# Altium footprint library Tama_PcbLib.PcbLib: 35 footprints (part 2 of 3)
Each footprint in its own frame and in the unit in brackets; x right, y up, seen from the top. Pads: shape width x height; smd on the part's side, far side on the other; paste and mask are expansions set on the pad; w line width, h text height; cw(c..) or ccw(c..) is an arc to the next point about the centre after c.
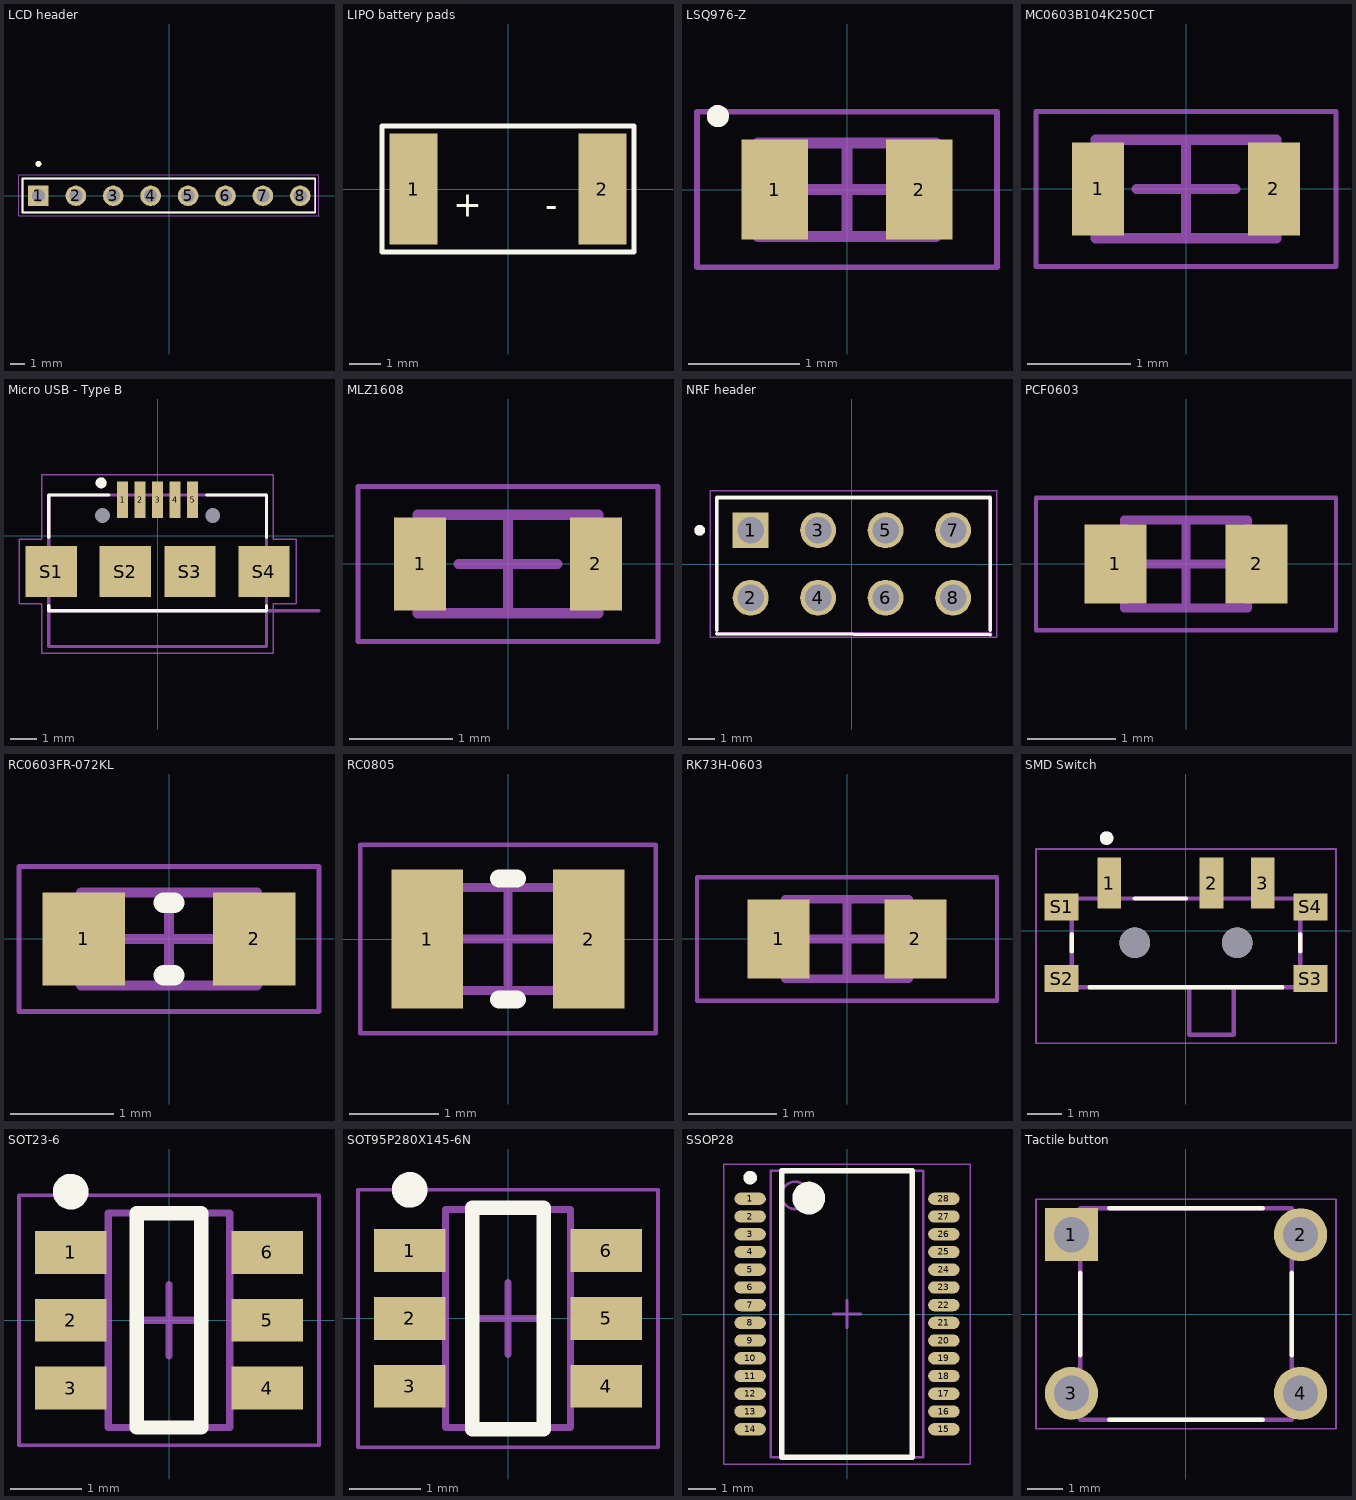
[diagram p1: the footprints below, top view; thin cyan lines are the x and y axes]

## LCD header [mm] "LCD header"
pads (8):
  rect 1.398x1.398 hole 0.89: 1(-8.89,0)
  round 1.398 hole 0.89: 2(-6.35,0) 3(-3.81,0) 4(-1.27,0) 5(1.27,0) 6(3.81,0) 7(6.35,0) 8(8.89,0)
Top Overlay:
  circle w0.2: c-8.89,2.17 r0.1
  lines w0.127: 9.878,1.17 -9.96,1.17 -9.96,-1.143 7.366,-1.143 9.906,-1.143 9.906,1.143
Mechanical 13:
  circle w0.2: c-8.89,2.17 r0.1
  lines w0.127: 9.878,1.17 -9.96,1.17 -9.96,-1.143 9.879,-1.143 9.879,1.17
Mechanical 15:
  lines w0.05: 10.137,-1.324 10.137,1.42 -10.21,1.42 -10.21,-1.347 10.16,-1.347

## LIPO battery pads [mm]
pads (2):
  rect 1.524x3.524 smd: 1(-3,0) 2(3,0)
Top Overlay:
  lines w0.154: -4,-2 4,-2 4,2 -4,2 -4,-2
  text "+" at -1.746,-0.879 h0.8
  text "-" at 1.185,-0.902 h0.8

## LSQ976-Z [mm] "SMD - Led"
height 0.84
pads (2):
  rect 0.6x0.9 smd: 1(-0.65,0) 2(0.65,0)
Top Overlay:
  circle w0.1: c-1.162,0.662 r0.05
Mechanical 13:
  lines w0.1: -0.8,-0.42 -0.8,0.42 0.8,0.42 0.8,-0.42 -0.8,-0.42
Mechanical 15:
  lines w0.05: -1.35,-0.7 -1.35,0.7 1.35,0.7 1.35,-0.7 -1.35,-0.7
  lines w0.1: -0.42,0 0.42,0 ; 0,-0.42 0,0.42
3D body "LSQ976-Z.step": height 0.84, standoff 0, extent -0.8,-0.42 0.8,0.42

## MC0603B104K250CT [mm] "0603 Capacitor"
height 0.6
pads (2):
  rect 0.5x0.9 smd: 1(-0.85,0) 2(0.85,0)
Mechanical 13:
  lines w0.1: -0.875,-0.475 0.875,-0.475 0.875,0.475 -0.875,0.475 -0.875,-0.475
Mechanical 15:
  lines w0.05: -1.45,-0.75 1.45,-0.75 1.45,0.75 -1.45,0.75 -1.45,-0.75
  lines w0.1: -0.475,0 0.475,0 ; 0,-0.475 0,0.475
3D body "MC0603B104K250CT.step": height 0.6, standoff 0, extent -0.875,-0.475 0.875,0.475

## Micro USB - Type B [mm] "Micro USB - Type B"
pads (11):
  rect 0.4x1.35 smd: 1(-1.3,1.338) 2(-0.65,1.338) 3(0,1.338) 4(0.65,1.338) 5(1.3,1.338)
  rect 1.9x1.9 smd: S1(-3.95,-1.338) S2(-1.2,-1.338) S3(1.2,-1.338) S4(3.95,-1.338)
  round 0.25 hole 0.55 unplated: ""(-2.05,0.75) ""(2.05,0.75)
Top Overlay:
  circle w0.2: c-2.1,1.963 r0.1
  lines w0.127: -4.05,-2.608 -4.05,-2.788 4.05,-2.788 4.05,-2.608 ; -4.05,-0.068 -4.05,1.512 -1.82,1.512 ; 1.82,1.512 4.05,1.512 4.05,-0.068
Mechanical 13:
  circle w0.2: c-2.1,1.963 r0.1
  lines w0.127: 6,-2.788 -4.05,-2.788 ; -4.05,-2.788 -4.05,-4.118 4.05,-4.118 4.05,1.512 -4.05,1.512 -4.05,-2.788
  text "PCB EDGE" at 5.325,-2.663 h0.61
Mechanical 15:
  lines w0.05: -5.15,-2.538 -5.15,-0.138 -4.3,-0.138 -4.3,2.262 4.3,2.262 4.3,-0.138 5.15,-0.138 5.15,-2.538 4.3,-2.538 4.3,-4.367 -4.3,-4.367 -4.3,-2.538 -5.15,-2.538
3D body "CUI_DEVICES_UJ2-MIBH-G-SMT-TR.step": height 2.66, standoff -0.59, extent -4.034,-4.159 4.066,1.484

## MLZ1608 [mm] "1608 - Inductor"
height 0.95
pads (2):
  rect 0.5x0.9 smd: 1(-0.85,0) 2(0.85,0)
Mechanical 13:
  lines w0.1: -0.875,-0.475 0.875,-0.475 0.875,0.475 -0.875,0.475 -0.875,-0.475
Mechanical 15:
  lines w0.05: -1.45,-0.75 1.45,-0.75 1.45,0.75 -1.45,0.75 -1.45,-0.75
  lines w0.1: -0.475,0 0.475,0 ; 0,-0.475 0,0.475
3D body "MLZ1608.step": height 0.95, standoff 0, extent -0.875,-0.475 0.875,0.475

## NRF header [mm] "8 pin NRF header"
pads (8):
  rect 1.35x1.35 hole 1: 1(-3.81,1.27)
  round 1.35 hole 1: 2(-3.81,-1.27) 3(-1.27,1.27) 4(-1.27,-1.27) 5(1.27,1.27) 6(1.27,-1.27) 7(3.81,1.27) 8(3.81,-1.27)
Top Overlay:
  circle w0.2: c-5.73,1.27 r0.1
  lines w0.127: -5.08,-2.627 5.206,-2.667 ; -5.08,-2.5 -5.08,2.5 5.156,2.5 ; 5.207,-2.5 5.207,2.5
Mechanical 13:
  circle w0.2: c-5.73,1.27 r0.1
  lines w0.127: -5.08,-2.5 -5.08,2.54 5.207,2.54 ; 5.207,-2.5 5.207,2.5 ; -5.08,-2.627 5.235,-2.629 -5.08,-2.627
Mechanical 15:
  lines w0.05: 5.457,-2.75 5.457,2.75 ; 5.461,-2.75 -5.33,-2.75 -5.33,2.75 5.461,2.75

## PCF0603 [mm] "PCF0603 SMD Resistor"
height 0.65
pads (2):
  rect 0.7x0.9 smd: 1(-0.8,0) 2(0.8,0)
Mechanical 13:
  lines w0.1: -0.7,-0.5 0.7,-0.5 0.7,0.5 -0.7,0.5 -0.7,-0.5
Mechanical 15:
  lines w0.05: -1.7,-0.75 1.7,-0.75 1.7,0.75 -1.7,0.75 -1.7,-0.75
  lines w0.1: -0.5,0 0.5,0 ; 0,-0.5 0,0.5
3D body "PCF0603.step": height 0.65, standoff 0, extent -0.7,-0.5 0.7,0.5

## RC0603FR-072KL [mm] "Chip Resistor, 2-Leads, Body 1,60x0,80mm, IPC Medium Density"
height 0.45
pads (2):
  rect 0.8x0.9 smd: 1(-0.825,0) 2(0.825,0)
Top Overlay:
  lines w0.2: -0.05,-0.35 0.05,-0.35 ; -0.05,0.35 0.05,0.35
Mechanical 13:
  lines w0.1: -0.85,-0.45 0.85,-0.45 0.85,0.45 -0.85,0.45 -0.85,-0.45
Mechanical 15:
  lines w0.05: -1.45,-0.7 1.45,-0.7 1.45,0.7 -1.45,0.7 -1.45,-0.7
  lines w0.1: -0.45,0 0.45,0 ; 0,-0.45 0,0.45
3D body "RESC1608X04N.step": height 0.45, standoff 0, extent -0.85,-0.45 0.85,0.45

## RC0805 [mm] "Chip Resistor, 2-Leads, Body 2,00x1,25mm, IPC Medium Density"
height 0.6
pads (2):
  rect 0.8x1.55 smd: 1(-0.9,0) 2(0.9,0)
Top Overlay:
  lines w0.2: -0.1,-0.675 0.1,-0.675 ; -0.1,0.675 0.1,0.675
Mechanical 13:
  lines w0.1: -1.05,-0.575 1.05,-0.575 1.05,0.575 -1.05,0.575 -1.05,-0.575
Mechanical 15:
  lines w0.05: -1.65,-1.05 1.65,-1.05 1.65,1.05 -1.65,1.05 -1.65,-1.05
  lines w0.1: -0.5,0 0.5,0 ; 0,-0.5 0,0.5
3D body "RC0805.step": height 0.6, standoff 0, extent -1.05,-0.575 1.05,0.575

## RK73H-0603 [mm] "RK73H 0603 SMD Resistor"
height 0.55
pads (2):
  rect 0.7x0.9 smd: 1(-0.775,0) 2(0.775,0)
Mechanical 13:
  lines w0.1: -0.7,-0.45 0.7,-0.45 0.7,0.45 -0.7,0.45 -0.7,-0.45
Mechanical 15:
  lines w0.05: -1.7,-0.7 1.7,-0.7 1.7,0.7 -1.7,0.7 -1.7,-0.7
  lines w0.1: -0.45,0 0.45,0 ; 0,-0.45 0,0.45
3D body "RK73H-0603.step": height 0.55, standoff 0, extent -0.7,-0.45 0.7,0.45

## SMD Switch [mm] "SMD slide switch"
pads (9):
  rect 0.7x1.5 smd: 1(-2.25,1.4) 2(0.75,1.4) 3(2.25,1.4)
  rect 1x0.8 smd: S1(-3.65,0.7) S2(-3.65,-1.4) S3(3.65,-1.4) S4(3.65,0.7)
  round 0.9 hole 0.9 unplated: ""(-1.5,-0.35) ""(1.5,-0.35)
Top Overlay:
  circle w0.2: c-2.329,2.721 r0.1
  lines w0.127: -3.35,-0.604 -3.35,-0.096 ; -2.83,-1.65 2.83,-1.65 ; -1.5,0.95 0,0.95 ; 3.35,-0.604 3.35,-0.096
Mechanical 13:
  circle w0.2: c-2.329,2.721 r0.1
  lines w0.127: 0.1,-1.65 1.4,-1.65 ; 0.1,-1.65 0.1,-3.05 1.4,-3.05 1.4,-1.65 ; 0.1,-1.65 -3.35,-1.65 -3.35,0.95 3.35,0.95 3.35,-1.65 1.4,-1.65
Mechanical 15:
  lines w0.05: -4.4,-3.3 4.4,-3.3 4.4,2.4 -4.4,2.4 -4.4,-3.3
3D body "step_temp.STEP": height 1.41, standoff -0.29, extent -3.874,-3.153 3.826,1.747

## SOT23-6 [mm] "SOT23-6"
height 1.45
pads (6):
  rect 1x0.6 smd: 1(-1.375,0.95) 2(-1.375,0) 3(-1.375,-0.95) 4(1.375,-0.95) 5(1.375,0) 6(1.375,0.95)
Top Overlay:
  circle w0.25: c-1.375,1.8 r0.125
  lines w0.2: -0.45,-1.5 0.45,-1.5 0.45,1.5 -0.45,1.5 -0.45,-1.5
Mechanical 13:
  lines w0.1: -0.85,-1.5 -0.85,1.5 0.85,1.5 0.85,-1.5 -0.85,-1.5
Mechanical 15:
  lines w0.05: -2.1,-1.75 -2.1,1.75 2.1,1.75 2.1,-1.75 -2.1,-1.75
  lines w0.1: -0.5,0 0.5,0 ; 0,-0.5 0,0.5
3D body "SOT23-6.step": height 1.45, standoff 0, extent -1.5,-1.5 1.5,1.5

## SOT95P280X145-6N [mm] "SOT23, 6-Leads - FS8205"
height 1.45
pads (6):
  rect 1x0.6 smd: 1(-1.375,0.95) 2(-1.375,0) 3(-1.375,-0.95) 4(1.375,-0.95) 5(1.375,0) 6(1.375,0.95)
Top Overlay:
  circle w0.25: c-1.375,1.8 r0.125
  lines w0.2: -0.5,-1.55 -0.5,1.55 0.5,1.55 0.5,-1.55 -0.5,-1.55
Mechanical 13:
  lines w0.1: -0.875,-1.525 0.875,-1.525 0.875,1.525 -0.875,1.525 -0.875,-1.525
Mechanical 15:
  lines w0.05: -2.1,-1.8 2.1,-1.8 2.1,1.8 -2.1,1.8 -2.1,-1.8
  lines w0.1: -0.5,0 0.5,0 ; 0,-0.5 0,0.5
3D body "SOT95P280X145-6N.step": height 1.45, standoff 0, extent -1.5,-1.525 1.5,1.525

## SSOP28 [mm] "SSOP28 - FTDI"
height 2
pads (28):
  oval 1.15x0.45 smd: 1(-3.55,4.225) 2(-3.55,3.575) 3(-3.55,2.925) 4(-3.55,2.275) 5(-3.55,1.625) 6(-3.55,0.975) 7(-3.55,0.325) 8(-3.55,-0.325) 9(-3.55,-0.975) 10(-3.55,-1.625) 11(-3.55,-2.275) 12(-3.55,-2.925) 13(-3.55,-3.575) 14(-3.55,-4.225) 15(3.55,-4.225) 16(3.55,-3.575) 17(3.55,-2.925) 18(3.55,-2.275) 19(3.55,-1.625) 20(3.55,-0.975) 21(3.55,-0.325) 22(3.55,0.325) 23(3.55,0.975) 24(3.55,1.625) 25(3.55,2.275) 26(3.55,2.925) 27(3.55,3.575) 28(3.55,4.225)
Top Overlay:
  circle w0.25: c-3.55,5 r0.125
  circle w0.6: c-1.4,4.25 r0.3
  lines w0.2: -2.4,-5.25 -2.4,5.25 2.4,5.25 2.4,-5.25 -2.4,-5.25
Mechanical 13:
  circle w0.1: c-1.9,4.35 r0.5
  lines w0.1: -2.8,-5.25 -2.8,5.25 2.8,5.25 2.8,-5.25 -2.8,-5.25
Mechanical 15:
  lines w0.05: -4.525,-5.5 -4.525,5.5 4.525,5.5 4.525,-5.5 -4.525,-5.5
  lines w0.1: -0.5,0 0.5,0 ; 0,-0.5 0,0.5
3D body "SSOP28.step": height 2, standoff 0, extent -3.888,-5.25 3.888,5.25

## Tactile button [mm] "thick button"
pads (4):
  rect 1.508x1.508 hole 1: 1(-3.25,2.25)
  round 1.508 hole 1: 2(3.25,2.25) 3(-3.25,-2.25) 4(3.25,-2.25)
Top Overlay:
  lines w0.127: -3,-1.176 -3,1.176 ; -2.176,-3 2.176,-3 ; -2.176,3 2.176,3 ; 3,-1.176 3,1.176
Mechanical 13:
  lines w0.127: -3,-3 -3,3 3,3 3,-3 -3,-3
Mechanical 15:
  lines w0.05: -4.254,-3.254 4.254,-3.254 4.254,3.254 -4.254,3.254 -4.254,-3.254
3D body "step_temp.STEP": height 9.7, standoff -3.7, extent -3.95,-3 3.945,3